# EAGLE library part 2X8 (library headers_2mm)
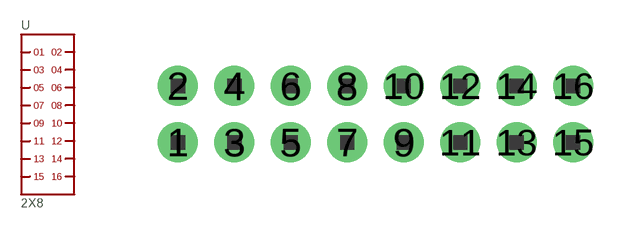
[diagram p8: symbol with the pads of 2X8; footprint 2X8]

Designator prefix -

## 2X8  [2X8]
1  1
2  2
3  3
4  4
5  5
6  6
7  7
8  8
9  9
10  10
11  11
12  12
13  13
14  14
15  15
16  16

## Footprint 2X8 (pad centres in mm)
drill 0.8 pad 1.422: 1 -7,-1; 2 -7,1; 3 -5,-1; 4 -5,1; 5 -3,-1; 6 -3,1; 7 -1,-1; 8 -1,1; 9 1,-1; 10 1,1; 11 3,-1; 12 3,1; 13 5,-1; 14 5,1; 15 7,-1; 16 7,1